# EAGLE library part FT230X (library PP_DigitalIC)
Manufacturer Part #: FT230XS-R Manufacturer: FTDI Description: USB Interface IC USB to Basic Serial UART IC SSOP-16
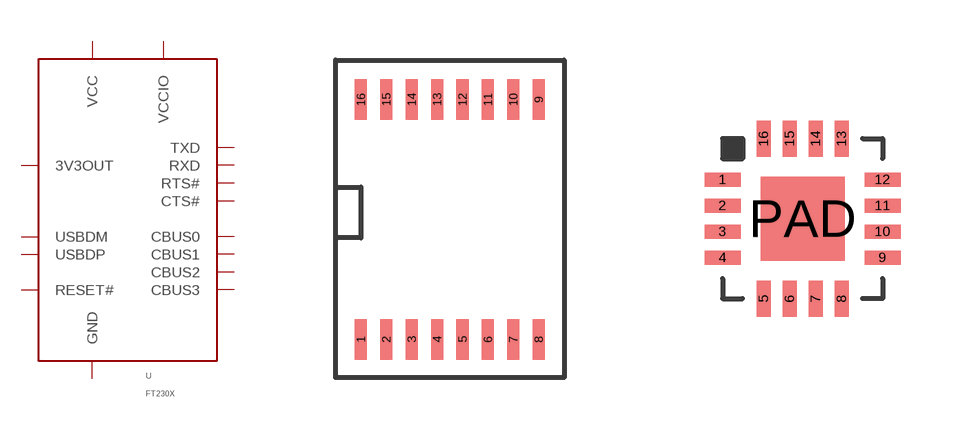
[diagram p2: symbol with the pads of SSOP-16; footprints SSOP-16, QFN-16]

Designator prefix U

## FT230XSSOP-16  [SSOP-16]
1  TXD
2  RTS#
3  VCCIO
4  RXD
5  GND
6  CTS#
7  CBUS2
8  USBDP
9  USBDM
10  3V3OUT
11  RESET#
12  VCC
13  GND
14  CBUS1
15  CBUS0
16  CBUS3

## FT230XQFN-16  [QFN-16]
1  VCCIO
2  RXD
3  GND
4  CTS#
5  CBUS2
6  USBDP
7  USBDM
8  3V3OUT
9  RESET#
10  VCC
11  CBUS1
12  CBUS0
13  GND
14  CBUS3
15  TXD
16  RTS#
PAD  GND

## Footprint SSOP-16 (pad centres in mm)
smd 0.305 x 1.016: 1 -1.905,-3.175; 2 -1.27,-3.175; 3 -0.635,-3.175; 4 0,-3.175; 5 0.635,-3.175; 6 1.27,-3.175; 7 1.905,-3.175; 8 2.54,-3.175; 9 2.54,2.819; 10 1.905,2.819; 11 1.27,2.819; 12 0.635,2.819; 13 0,2.819; 14 -0.635,2.819; 15 -1.27,2.819; 16 -1.905,2.819

## Footprint QFN-16 (pad centres in mm)
smd 0.9 x 0.35: 1 -2,0.975; 2 -2,0.325; 3 -2,-0.325; 4 -2,-0.975; 9 2,-0.975; 10 2,-0.325; 11 2,0.325; 12 2,0.975
smd 0.35 x 0.9: 5 -0.975,-2; 6 -0.325,-2; 7 0.325,-2; 8 0.975,-2; 13 0.975,2; 14 0.325,2; 15 -0.325,2; 16 -0.975,2
smd 2.1 x 2.1: PAD 0,0